# EAGLE library part LCD (library 000_eigene_Bauteile)
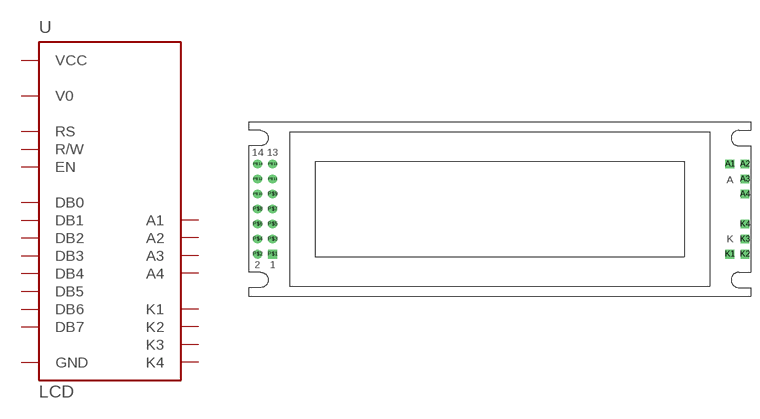
[diagram p4: symbol with the pads of TC1602E-01; footprint TC1602E-01]

Designator prefix -

## LCD  [TC1602E-01]
A1  A1
A2  A2
A3  A3
A4  A4
K1  K1
K2  K2
K3  K3
K4  K4
P$1  VCC
P$2  GND
P$3  V0
P$4  RS
P$5  R/W
P$6  EN
P$7  DB0
P$8  DB1
P$9  DB2
P$10  DB3
P$11  DB4
P$12  DB5
P$13  DB6
P$14  DB7

## Footprint TC1602E-01 (pad centres in mm)
drill 1 square: A1 39,7.62; A2 41.54,7.62; A3 41.54,5.08; A4 41.54,2.54; K1 39,-7.62; K2 41.54,-7.62; K3 41.54,-5.08; K4 41.54,-2.54; P$1 -38.46,-7.62
drill 1: P$2 -41,-7.62; P$3 -38.46,-5.08; P$4 -41,-5.08; P$5 -38.46,-2.54; P$6 -41,-2.54; P$7 -38.46,0; P$8 -41,0; P$9 -38.46,2.54; P$10 -41,2.54; P$11 -38.46,5.08; P$12 -41,5.08; P$13 -38.46,7.62; P$14 -41,7.62